# Altium schematic symbol library AMS1117.SchLib: 1 symbol
Pins are listed as number, name and electrical type; pins without a type are passive.

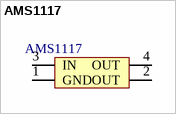
[diagram p0: symbol AMS1117]

## AMS1117
designator AMS1117  (value not drawn)
footprint AMS1117
pins: 1 GND, 2 OUT, 3 IN, 4 OUT